# Altium schematic symbol library Symbol.SchLib: 7 symbols
Pins are listed as number, name and electrical type; pins without a type are passive.

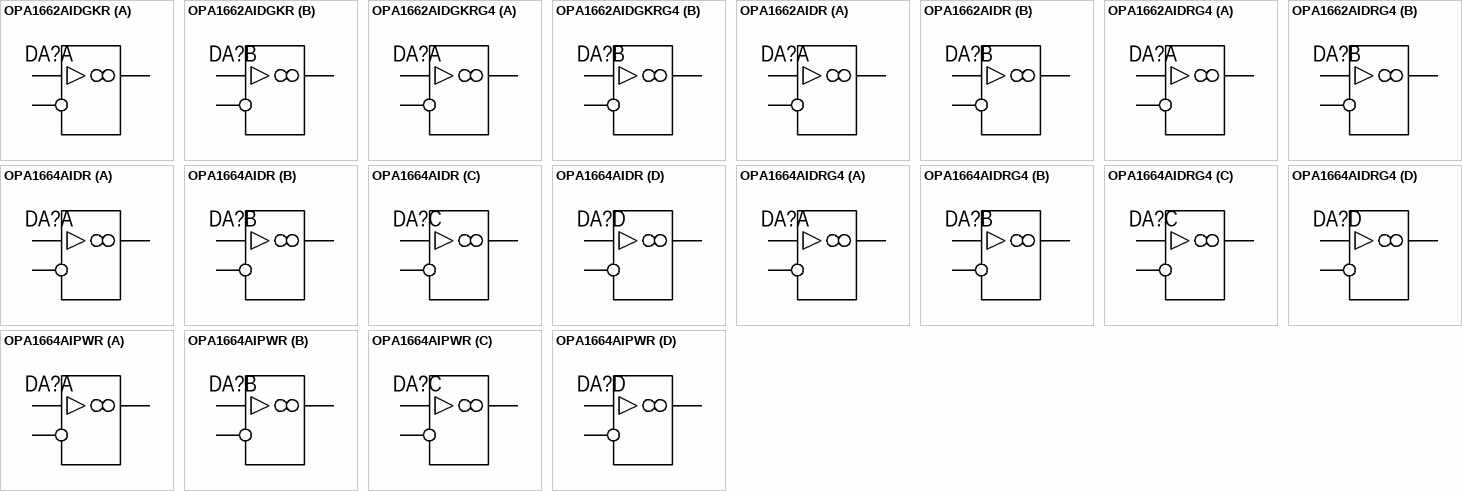
[diagram p0: symbols OPA1662AIDGKR to OPA1664AIPWR]

## OPA1662AIDGKR
designator DA?  (value not drawn)
Low-Power, Low-Noise-and-Distortion, Bipolar-Input SoundPlus™ Audio Operational Amplifiers
footprint DGK0008A (VSSOP, 8-Leads, Body 3.10x3.10 mm, IPC Medium Density)
part A pins: 1 OUT A, 2 -IN A, 3 +IN A
part B pins: 5 +IN B, 6 -IN B, 7 OUT B

## OPA1662AIDGKRG4
designator DA?  (value not drawn)
Low-Power, Low-Noise-and-Distortion, Bipolar-Input SoundPlus™ Audio Operational Amplifiers
footprint DGK0008A (VSSOP, 8-Leads, Body 3.10x3.10 mm, IPC Medium Density)
part A pins: 1 OUT A, 2 -IN A, 3 +IN A
part B pins: 5 +IN B, 6 -IN B, 7 OUT B

## OPA1662AIDR
designator DA?  (value not drawn)
Low-Power, Low-Noise-and-Distortion, Bipolar-Input SoundPlus™ Audio Operational Amplifiers
footprint D0008A (SOIC, 8-Leads, Body 5.00x3.90 mm, IPC Medium Density)
part A pins: 1 OUT A, 2 -IN A, 3 +IN A
part B pins: 5 +IN B, 6 -IN B, 7 OUT B

## OPA1662AIDRG4
designator DA?  (value not drawn)
Low-Power, Low-Noise-and-Distortion, Bipolar-Input SoundPlus™ Audio Operational Amplifiers
footprint D0008A (SOIC, 8-Leads, Body 5.00x3.90 mm, IPC Medium Density)
part A pins: 1 OUT A, 2 -IN A, 3 +IN A
part B pins: 5 +IN B, 6 -IN B, 7 OUT B

## OPA1664AIDR
designator DA?  (value not drawn)
Low-Power, Low-Noise-and-Distortion, Bipolar-Input SoundPlus™ Audio Operational Amplifiers
footprint D0014A (SOIC, 14-Leads, Body 8.75x4.00 mm, IPC Medium Density)
part A pins: 1 OUT A, 2 -IN A, 3 +IN A
part B pins: 5 +IN B, 6 -IN B, 7 OUT B
part C pins: 8 OUT C, 9 -IN C, 10 +IN C
part D pins: 12 +IN D, 13 -IN D, 14 OUT D

## OPA1664AIDRG4
designator DA?  (value not drawn)
Low-Power, Low-Noise-and-Distortion, Bipolar-Input SoundPlus™ Audio Operational Amplifiers
footprint D0014A (SOIC, 14-Leads, Body 8.75x4.00 mm, IPC Medium Density)
part A pins: 1 OUT A, 2 -IN A, 3 +IN A
part B pins: 5 +IN B, 6 -IN B, 7 OUT B
part C pins: 8 OUT C, 9 -IN C, 10 +IN C
part D pins: 12 +IN D, 13 -IN D, 14 OUT D

## OPA1664AIPWR
designator DA?  (value not drawn)
Low-Power, Low-Noise-and-Distortion, Bipolar-Input SoundPlus™ Audio Operational Amplifiers
footprint PW0014A (TSSOP, 14-Leads, Body 5.10x4.50 mm, IPC Medium Density)
part A pins: 1 OUT A, 2 -IN A, 3 +IN A
part B pins: 5 +IN B, 6 -IN B, 7 OUT B
part C pins: 8 OUT C, 9 -IN C, 10 +IN C
part D pins: 12 +IN D, 13 -IN D, 14 OUT D